# Altium schematic symbol library SMBJ5_0CA.SchLib: 1 symbol
Pins are listed as number, name and electrical type; pins without a type are passive.

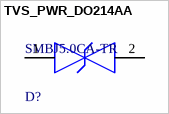
[diagram p0: symbol TVS_PWR_DO214AA]

## TVS_PWR_DO214AA
designator D?, comment SMBJ5.0CA-TR
13.4V 20uA 298A@8/20us 4kW@8/20us 5V 6.4V Bidirectional IEC 61000-4-2、IEC 61000-4-5、IEC 61000-4-4 TVS SMB(DO-214AA) ESD and Surge Protection (TVS/ESD) ROHS; Manufacturer: STMicroelectronics; Max Junction Temp: +150°C; Number Of Channels: 1; Peak Pulse Current: 68A; Standoff Height: 0.05mm; Peak Pulse Power: 600W; Clamping Voltage: 9.2V; Manufacturer Part Number: SMBJ5.0CA-TR; Device Class L3: unset; Temperature Range Low: -55°C; Digikey Description: TVS DIODE 5V 13.4V SMB; Device Class L2: TVS Diodes; Mouser Description: TVS Diodes - Transient Voltage Suppressors 600W 5.0V Bidirect; Height: 2.65mm; ComponentLink2Description: Datasheet; Lead Free: Yes; RoHS: TRUE; Direction: Bidirectional; Device Class L1: Circuit Protection; Package: SMB-CA; Reverse Standoff Voltage: 5V; ComponentLink2URL: https://www.st.com/content/ccc/resource/technical/document/datasheet/19/78/91/39/07/cd/40/65/CD00001366.pdf/files/CD00001366.pdf/_jcr_content/translations/en.CD00001366.pdf; Temperature: -55°C to +150°C; Automotive: No; Octopart: https://octopart.com/smbj5.0ca-tr-stmicroelectronics-347080; Temperature Range High: +150°C; Breakdown Voltage: 6.4V; Category: Diode
footprint FP-SMB-CA-MFG
pins: 1, 2